# EAGLE library part TINY2313* (library densikit)
Atmel Tiny2313 2K Flash, 128 bytes EEPROM, 128 bytes RAM
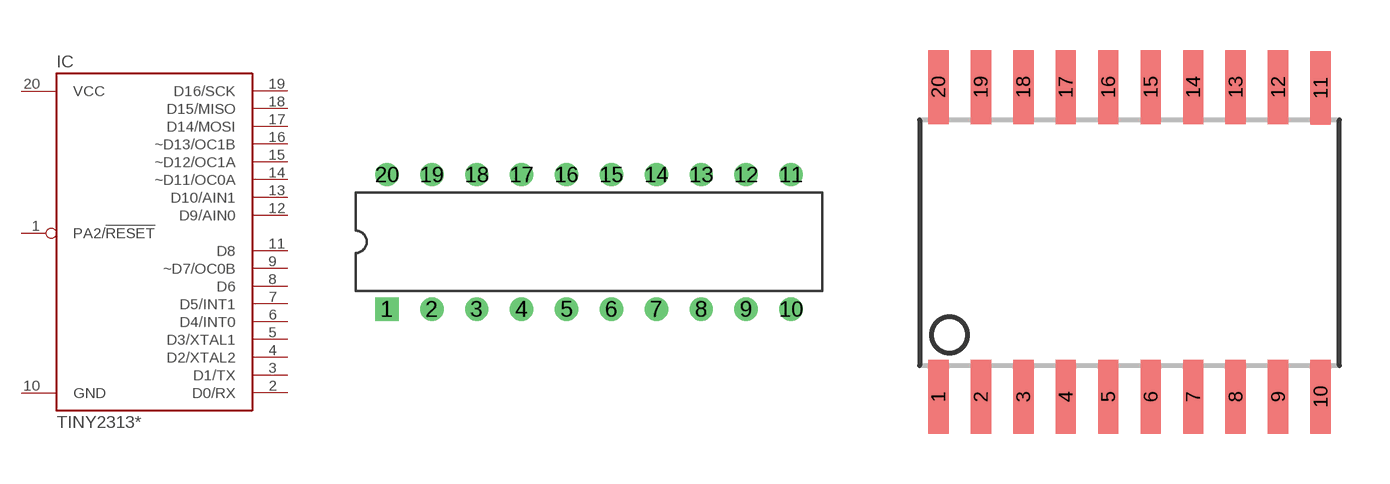
[diagram p13: symbol with the pads of DIL20; footprints DIL20, SO20L$]

Designator prefix IC

## TINY2313-*P*  [DIL20]
1  PA2/!RESET  in
2  D0/RX
3  D1/TX
4  D2/XTAL2
5  D3/XTAL1
6  D4/INT0
7  D5/INT1
8  D6
9  ~D7/OC0B
10  GND  pwr
11  D8
12  D9/AIN0
13  D10/AIN1
14  ~D11/OC0A
15  ~D12/OC1A
16  ~D13/OC1B
17  D14/MOSI
18  D15/MISO
19  D16/SCK
20  VCC  pwr

## TINY2313-*S*  [SO20L$]
Pads as for DIL20

## TINY2313-*M*  [MLF20]
P$1  D1/TX
P$2  D2/XTAL2
P$3  D3/XTAL1
P$4  D4/INT0
P$5  D5/INT1
P$6  D6
P$7  ~D7/OC0B
P$8  GND  pwr
P$9  D8
P$10  D9/AIN0
P$11  D10/AIN1
P$12  ~D11/OC0A
P$13  ~D12/OC1A
P$14  ~D13/OC1B
P$15  D14/MOSI
P$16  D15/MISO
P$17  D16/SCK
P$18  VCC  pwr
P$19  PA2/!RESET  in
P$20  D0/RX

## Footprint DIL20 (pad centres in mm)
Dual In Line
drill 0.813 square: 1 -11.43,-3.81
drill 0.813: 2 -8.89,-3.81; 3 -6.35,-3.81; 4 -3.81,-3.81; 5 -1.27,-3.81; 6 1.27,-3.81; 7 3.81,-3.81; 8 6.35,-3.81; 9 8.89,-3.81; 10 11.43,-3.81; 11 11.43,3.81; 12 8.89,3.81; 13 6.35,3.81; 14 3.81,3.81; 15 1.27,3.81; 16 -1.27,3.81; 17 -3.81,3.81; 18 -6.35,3.81; 19 -8.89,3.81; 20 -11.43,3.81

## Footprint SO20L$ (pad centres in mm)
Small Outline Package, large
smd 0.61 x 2.21: 1 -5.715,-4.636; 2 -4.445,-4.636; 3 -3.175,-4.636; 4 -1.905,-4.636; 5 -0.635,-4.636; 6 0.635,-4.636; 7 1.905,-4.636; 8 3.175,-4.636; 9 4.445,-4.636; 10 5.715,-4.636; 11 5.715,4.61; 12 4.445,4.636; 13 3.175,4.636; 14 1.905,4.636; 15 0.635,4.636; 16 -0.635,4.636; 17 -1.905,4.636; 18 -3.175,4.636; 19 -4.445,4.636; 20 -5.715,4.636

## Footprint MLF20 (pad centres in mm)
HP-VFQFP-N20 Micro Lead Frame package (MLF)
smd 0.8 x 0.23: P$1 -2,1; P$2 -2,0.5; P$3 -2,0; P$4 -2,-0.5; P$5 -2,-1; P$11 2,-1; P$12 2,-0.5; P$13 2,0; P$14 2,0.5; P$15 2,1
smd 0.23 x 0.8: P$6 -1,-2; P$7 -0.5,-2; P$8 0,-2; P$9 0.5,-2; P$10 1,-2; P$16 1,2; P$17 0.5,2; P$18 0,2; P$19 -0.5,2; P$20 -1,2